# Altium footprint library 691 214 300 0xx.PcbLib: 2 footprints
Each footprint in its own frame and in the unit in brackets; x right, y up, seen from the top. Pads: shape width x height; smd on the part's side, far side on the other; paste and mask are expansions set on the pad; w line width, h text height; cw(c..) or ccw(c..) is an arc to the next point about the centre after c.
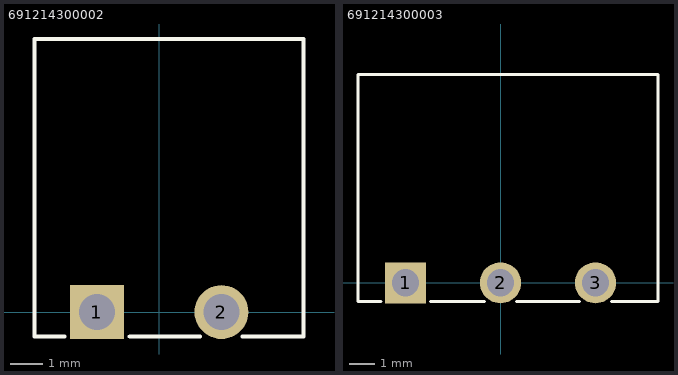
[diagram p0: the footprints below, top view; thin cyan lines are the x and y axes]

## 691214300002 [mm] "Serie 2143 - 3.81 mm _ 2 pins"
height 7.3
pads (2):
  rect 1.65x1.65 hole 1.1: 1(-1.905,0)
  round 1.65 hole 1.1: 2(1.905,0)
Top Overlay:
  lines w0.127: -2.9,-0.75 -3.81,-0.75 -3.81,8.35 4.41,8.35 4.41,-0.75 2.55,-0.75 ; -0.9,-0.75 1.25,-0.75
3D body: height 7.35, standoff -3.45, extent -3.81,-0.7 4.41,8.4

## 691214300003 [mm] "Serie 2143 - 3.81 mm _ 3 pins"
height 7.3
pads (3):
  rect 1.65x1.65 hole 1.1: 1(-3.81,0)
  round 1.65 hole 1.1: 2(0,0) 3(3.81,0)
Top Overlay:
  lines w0.127: -5.715,-0.75 -5.715,8.35 6.315,8.35 6.315,-0.75 4.45,-0.75 ; -5.7,-0.75 -4.8,-0.75 ; -2.8,-0.75 -0.65,-0.75 ; 0.65,-0.75 3.16,-0.75
3D body: height 7.35, standoff -3.45, extent -5.715,-0.75 6.315,8.35